# EAGLE library part XF2U-1815-3A (library XF2U-1815-3A)
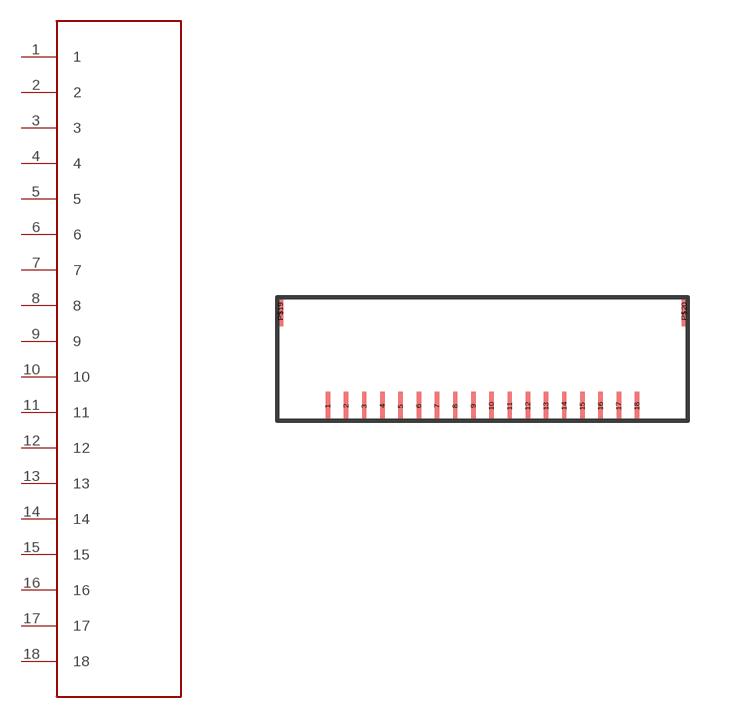
[diagram p0: symbol with the pads of XF2U-1815-3A; footprint XF2U-1815-3A]

Designator prefix -

## XF2U-1815-3A  [XF2U-1815-3A]
1  1
2  2
3  3
4  4
5  5
6  6
7  7
8  8
9  9
10  10
11  11
12  12
13  13
14  14
15  15
16  16
17  17
18  18

## Footprint XF2U-1815-3A (pad centres in mm)
smd 0.12 x 0.8: 1 0.1,0.4; 2 0.6,0.4; 3 1.1,0.4; 4 1.6,0.4; 5 2.1,0.4; 6 2.6,0.4; 7 3.1,0.4; 8 3.6,0.4; 9 4.1,0.4; 10 4.6,0.4; 11 5.1,0.4; 12 5.6,0.4; 13 6.1,0.4; 14 6.6,0.4; 15 7.1,0.4; 16 7.6,0.4; 17 8.1,0.4; 18 8.6,0.4
smd 0.15 x 0.8: P$19 -1.2,3; P$20 9.9,3